# EAGLE library part A000005 (library Arduino_Nano_v3.0)
MICRO, ARDUINO NANO 3.0, MINI-B USB, ATmega328, 0.1"DIP, ICSP HDR
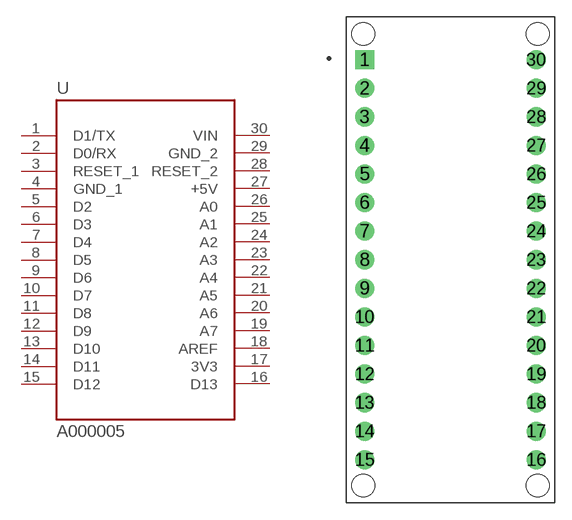
[diagram p0: symbol with the pads of ARDUINO_A000005; footprint ARDUINO_A000005]

Designator prefix U

## A000005ARDUINO_NANO (DESCRIPTION: MICRO, ARDUINO NANO 3.0, MINI-B USB, ATmega328, 0.1DIP, ICSP HDR; DIGI-KEY_PART_NUMBER: 1050-1001-ND; DIGI-KEY_PURCHASE_URL: https://www.digikey.com/product-detail/en/arduino/A000005/1050-1001-ND/2638989?utm_source=snapeda&utm_medium=aggregator&utm_campaign=symbol; MF: Arduino; MP: A000005; PACKAGE: None)  [ARDUINO_A000005]
1  D1/TX
2  D0/RX
3  RESET_1  in
4  GND_1  pwr
5  D2
6  D3
7  D4
8  D5
9  D6
10  D7
11  D8
12  D9
13  D10
14  D11
15  D12
16  D13
17  3V3  out
18  AREF  in
19  A7  in
20  A6  in
21  A5  in
22  A4  in
23  A3  in
24  A2  in
25  A1  in
26  A0  in
27  +5V  pwr
28  RESET_2  in
29  GND_2  pwr
30  VIN  pwr

## Footprint ARDUINO_A000005 (pad centres in mm)
drill 1.1 pad 1.7 square: 1 -7.62,17.78
drill 1.1 pad 1.7: 2 -7.62,15.24; 3 -7.62,12.7; 4 -7.62,10.16; 5 -7.62,7.62; 6 -7.62,5.08; 7 -7.62,2.54; 8 -7.62,0; 9 -7.62,-2.54; 10 -7.62,-5.08; 11 -7.62,-7.62; 12 -7.62,-10.16; 13 -7.62,-12.7; 14 -7.62,-15.24; 15 -7.62,-17.78; 16 7.62,-17.78; 17 7.62,-15.24; 18 7.62,-12.7; 19 7.62,-10.16; 20 7.62,-7.62; 21 7.62,-5.08; 22 7.62,-2.54; 23 7.62,0; 24 7.62,2.54; 25 7.62,5.08; 26 7.62,7.62; 27 7.62,10.16; 28 7.62,12.7; 29 7.62,15.24; 30 7.62,17.78
hole 2.028 at -7.747,-20.066
hole 2.028 at 7.747,-20.066
hole 2.028 at -7.747,20.066
hole 2.028 at 7.747,20.066